# Altium schematic symbol library BEAGLEBONEBLK_C_Library.SchLib: 71 symbols
Pins are listed as number, name and electrical type; pins without a type are passive.

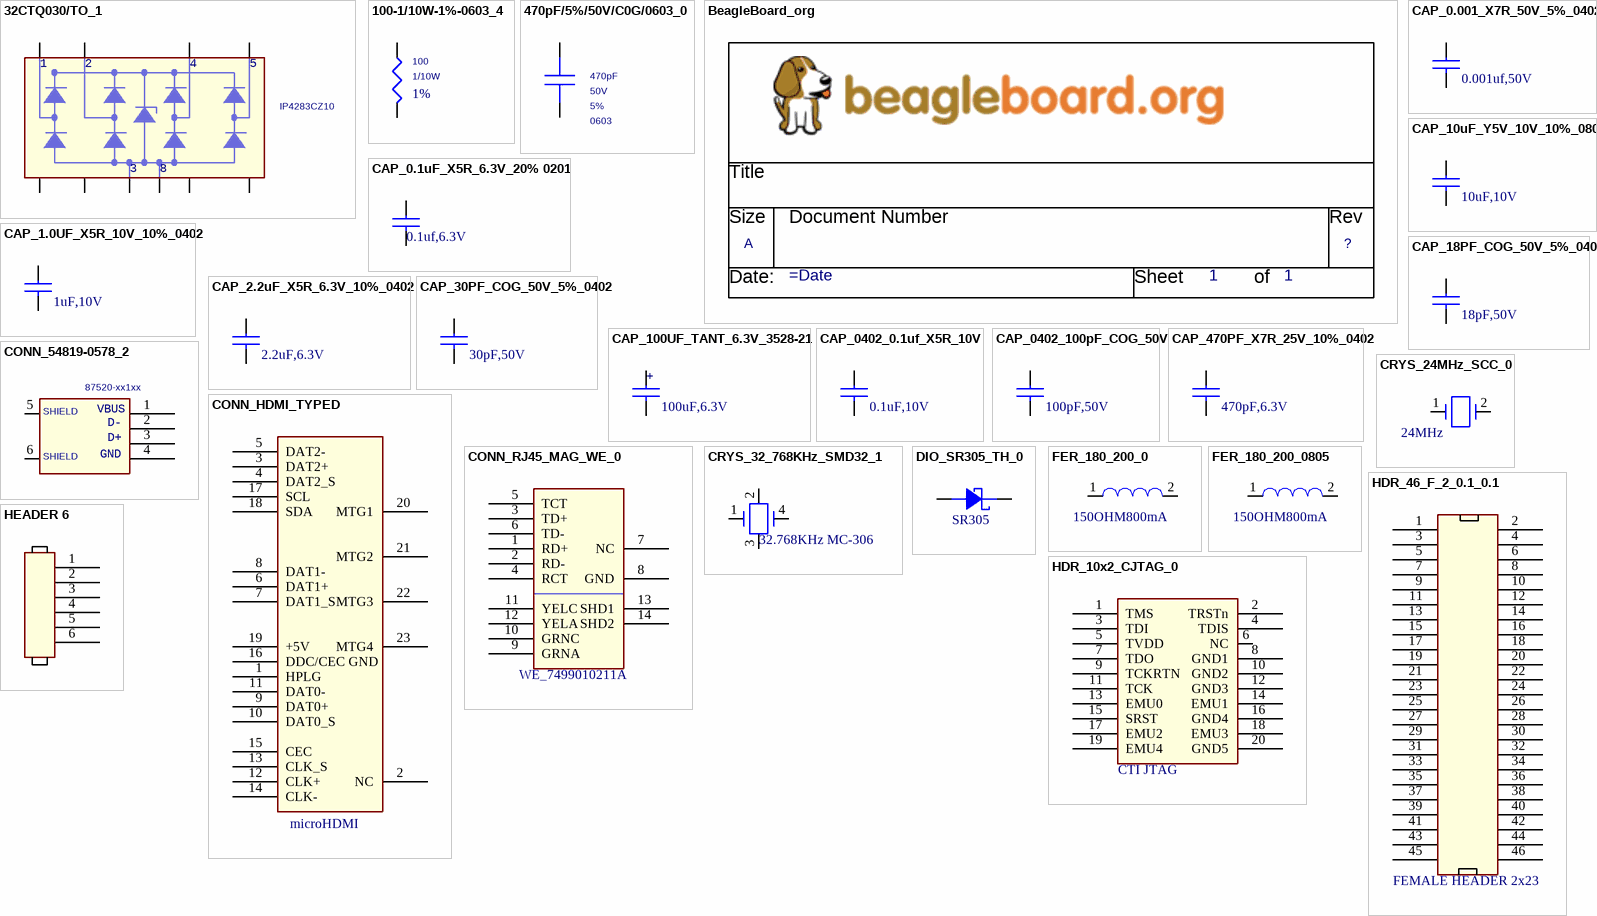
[diagram p0: symbols 32CTQ030/TO_1 to HEADER 6]

## 32CTQ030/TO_1
designator D?, comment IP4283CZ10
pins: 1, 2, 3, 4, 5, 6, 7, 8, 9, 10

## 100-1/10W-1%-0603_4
designator R?, comment 100  Tolerance: 1%  Wattage: 1/10W
PART#: Rohm MCR03EZPFX1000; PCB Footprint: 0603
footprint 0603
pins: 1, 2

## 470pF/5%/50V/C0G/0603_0
designator C?, comment 470pF  TOLERANCE: 5%  VOLTAGE: 50V  PCB Footprint: 0603
PART#: Murata GCM1885C1H471JA16D; DIELECTRIC: C0G; Ratings: AEC-Q200
footprint 0603
pins: 1, 2

## BeagleBoard_org
designator *  Page Count: 1  Page Size: A  (hidden comment: *)  (graphical)
Page Number: 1; RevCode: ?; Page Create Date: March  8, 1995; Page Modify Date: =Date
text: Title; Size; Document Number; Rev; Date:; Sheet; of

## CAP_0.001_X7R_50V_5%_0402
designator C?, comment 0.001uf,50V
Part Number: CAP_0.001uf_X7R_50V_0402; Desc: Capacitor 0.001uF 50V 5% 0402
footprint 402
pins: 1, 2

## CAP_0.1uF_X5R_6.3V_20% 0201
designator C?, comment 0.1uf,6.3V
Part Number: CAP_0.1uf_X7R_16V_10%_0402; Desc: Capacitor 0.01uF 16V 10% 0402
footprint 402
pins: 1, 2

## CAP_1.0UF_X5R_10V_10%_0402
designator C?, comment 1uF,10V
Part Number: CAP_1.0uF_X5R_10V_10%_0402; Desc: CAP, CER, X7R, 0402, 50V, 10%, 0.1uF
footprint 402
pins: 1, 2

## CAP_2.2uF_X5R_6.3V_10%_0402
designator C?, comment 2.2uF,6.3V
Part Number: CAP_2.2uF_X5R_6.3V_10%_0402; Desc: CAP, CER, X7R, 0402, 50V, 10%, 0.1uF
footprint 402
pins: 1, 2

## CAP_10uF_Y5V_10V_10%_0805
designator C?, comment 10uF,10V
Part Number: CAP_10uF_Y5V_10V_10%_0805; Desc: CAP CER 10UF 10V Y5V 0805
footprint r402-25rd
pins: 1, 2

## CAP_18PF_COG_50V_5%_0402
designator C?, comment 18pF,50V
Part Number: CAP_18PF_COG_50V_5%_0402; Desc: CAP, CER, X7R, 0402, 50V, 10%, 0.1uF
footprint 402
pins: 1, 2

## CAP_30PF_COG_50V_5%_0402
designator C?, comment 30pF,50V
Part Number: CAP_30PF_COG_50V_5%_0402; Desc: CAP, CER, X7R, 0402, 50V, 10%, 0.1uF
footprint 402
pins: 1, 2

## CAP_100UF_TANT_6.3V_3528-21
designator C?, comment 100uF,6.3V
Part Number: CAP_100uF_TANT_6.3V_3528-21; Desc: CAP CER 100UF 10V Y5V 0805
footprint r402-25rd
pins: 1, 2
text: +

## CAP_0402_0.1uf_X5R_10V
designator C?, comment 0.1uF,10V
Desc: CAP, CER, X7R, 0402, 10V, 10%, 0.1uF
footprint c402-25
pins: 1, 2

## CAP_0402_100pF_COG_50V
designator C?, comment 100pF,50V
Desc: CAP, CER, X7R, 0402, 10V, 10%, 0.1uF
footprint r402-25rd
pins: 1, 2

## CAP_470PF_X7R_25V_10%_0402
designator C?, comment 470pF,6.3V
Part Number: CAP_470PF_X7R_25V_10%_0402; Desc: Capacitor 470pF 25V 10% X7R
footprint 402
pins: 1, 2

## CONN_54819-0578_2
designator J?, comment 87520-xx1xx
TN: 224-0234-000; CLASS: IO
footprint MOL-54819-0578
pins: 1 P1, 2 P2, 3 P3, 4 P4, 5 SHELD1, 6 PAD4
text: VBUS; SHIELD; D-; D+; GND

## CONN_HDMI_TYPED
designator P?, comment microHDMI
footprint hdmi-smt-w-flange
pins: 1 HPLG, 2 NC, 3 DAT2+, 4 DAT2_S, 5 DAT2-, 6 DAT1+, 7 DAT1_S, 8 DAT1-, 9 DAT0+, 10 DAT0_S, 11 DAT0-, 12 CLK+, 13 CLK_S, 14 CLK-, 15 CEC, 16 DDC/CEC GND, 17 SCL, 18 SDA, 19 +5V, 20 MTG1 (power), 21 MTG2 (power), 22 MTG3 (power), 23 MTG4 (power)

## CONN_RJ45_MAG_WE_0
designator P?, comment WE_7499010211A
footprint RJ45-BEL_J1-SHLD
pins: 1 RD+, 2 RD-, 3 TD+, 4 RCT, 5 TCT, 6 TD-, 7 NC, 8 GND, 9 GRNA, 10 GRNC, 11 YELC, 12 YELA, 13 SHD1, 14 SHD2

## CRYS_24MHz_SCC_0
designator Y?, comment 24MHz
Crystal 24MHz; TIIntPartnumber: 1Y0033; MfrNum: SCC18B-24.000MHz TR; Mfr: Suntsu; PartName: Crystal24MHzSCC; PCB Footprint: SM_CRY_SCC18; Cost10K: 0.51; Cost100: 0.90; Vendor: Suntsu Inc
footprint SM_CRY_SCC18
pins: 1, 2

## CRYS_32_768KHz_SMD32_1
designator Y?, comment 32.768KHz MC-306
Crystal 32.768KHz; PartName: Crystal32.768KHzMC306; Mfr: Epson; MfrNum: MC-30632.7680k-A; TIIntPartnumber: 1Y0029; TN: tbd; Vendor: Digikey; Cost100: 0.41; Cost10K: 0.338; PCB Footprint: smd
footprint MC-306
pins: 1, 2, 3, 4

## DIO_SR305_TH_0
designator D?, comment SR305
Part Number: DIO_SR305_TH
pins: 1 CATHODE, 2 ANODE

## FER_180_200_0
designator FB?, comment 150OHM800mA
Ferrite Bead 150 Ohm 800mA; Part Number: FER_180_200_0805; TIIntPartnumber: 1L0010; MfrNum: LI0805H151R-10; Mfr: Steward; PCB Footprint: 805; Vendor: Digikey; PartName: FerriteBead150ohm800mA
footprint L0805
pins: 1, 2

## FER_180_200_0805
designator FB?, comment 150OHM800mA
Ferrite Bead 150 Ohm 800mA; Part Number: FER_180_200_0805; TIIntPartnumber: 1L0010; MfrNum: LI0805H151R-10; Mfr: Steward; PCB Footprint: 805; Vendor: Digikey; PartName: FerriteBead150ohm800mA
footprint sm-7351-ind-0805
pins: 1, 2

## HDR_10x2_CJTAG_0
designator J?, comment CTI JTAG
Dual Line Header 10x2pin Tin; PartName: HEADERCTIJTAG10x2Pin; Mfr: Samtec; MfrNum: FTR-110-03-G-D-06; TIIntPartnumber: 2H0039; Cost100: 1.20; Cost10K: 0.97; PCB Footprint: SMD10x2Pin0.050in; Vendor: Samtec
footprint header10x2
pins: 1 TMS, 2 TRSTn, 3 TDI, 4 TDIS, 5 TVDD, 6 NC, 7 TDO, 8 GND1 (power), 9 TCKRTN, 10 GND2 (power), 11 TCK, 12 GND3 (power), 13 EMU0, 14 EMU1, 15 SRST, 16 GND4 (power), 17 EMU2, 18 EMU3, 19 EMU4, 20 GND5 (power)

## HDR_46_F_2_0.1_0.1
designator P?, comment FEMALE HEADER 2x23
pins: 1, 2 26, 3 2, 4 27, 5 3, 6 28, 7 4, 8 29, 9 5, 10 30, 11 6, 12 31, 13 7, 14 32, 15 8, 16 33, 17 9, 18 34, 19 10, 20 35, 21 11, 22 36, 23 12, 24 37, 25 13, 26 38, 27 14, 28 39, 29 15, 30 40, 31 16, 32 41, 33 17, 34 42, 35 18, 36 43, 37 19, 38 44, 39 20, 40 45, 41 21, 42 46, 43 22, 44 47, 45 23, 46 48

## HEADER 6
designator J?
pins: 1, 2, 3, 4, 5, 6

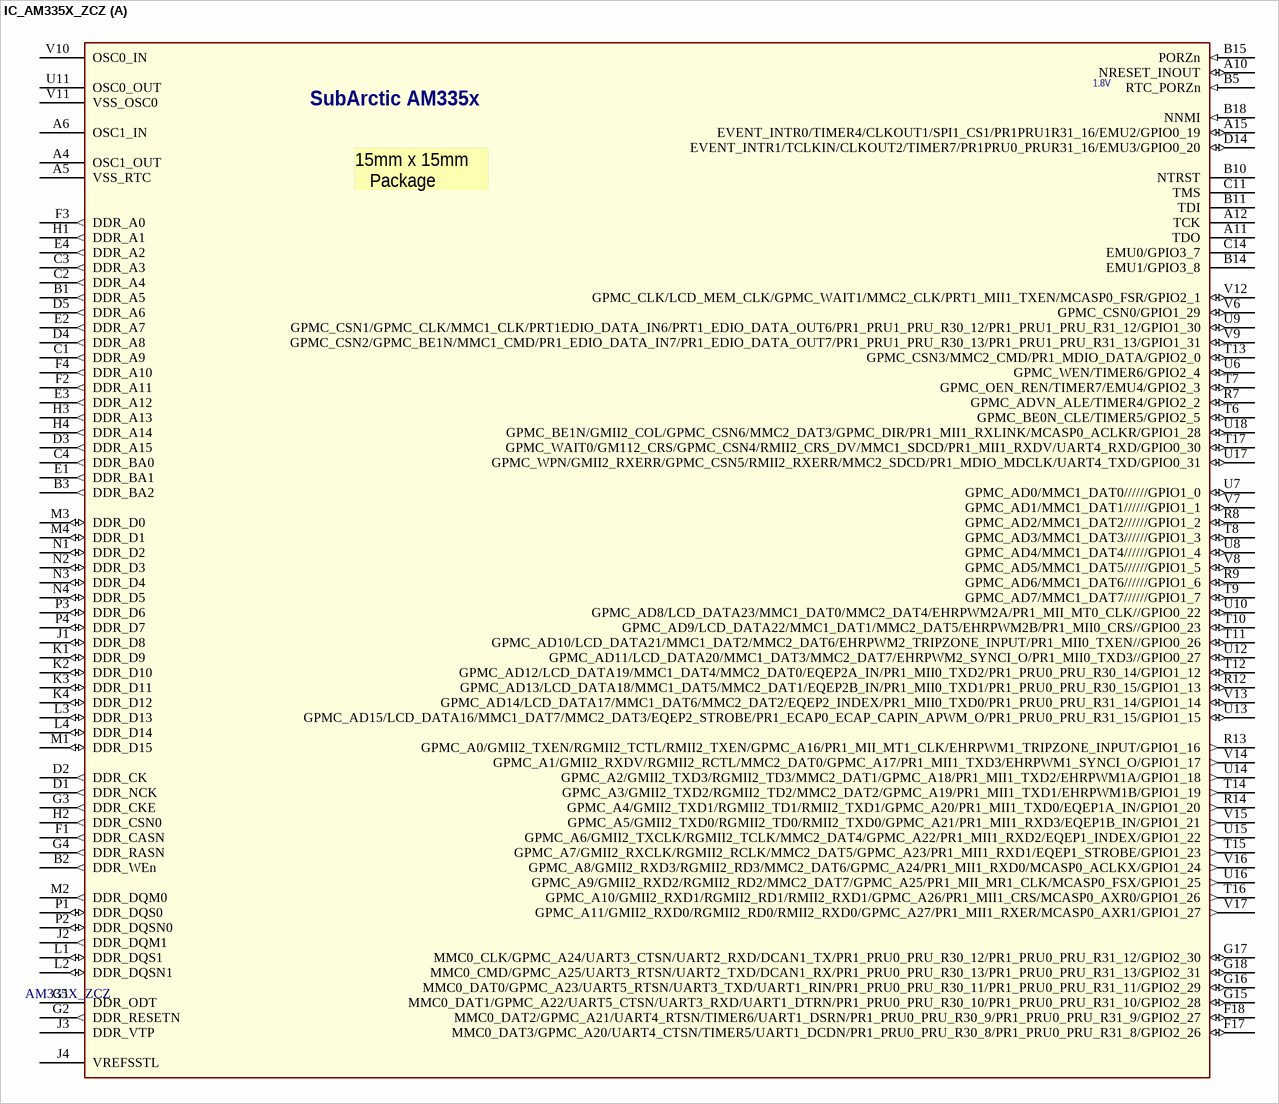
[diagram p1: symbol IC_AM335X_ZCZ]

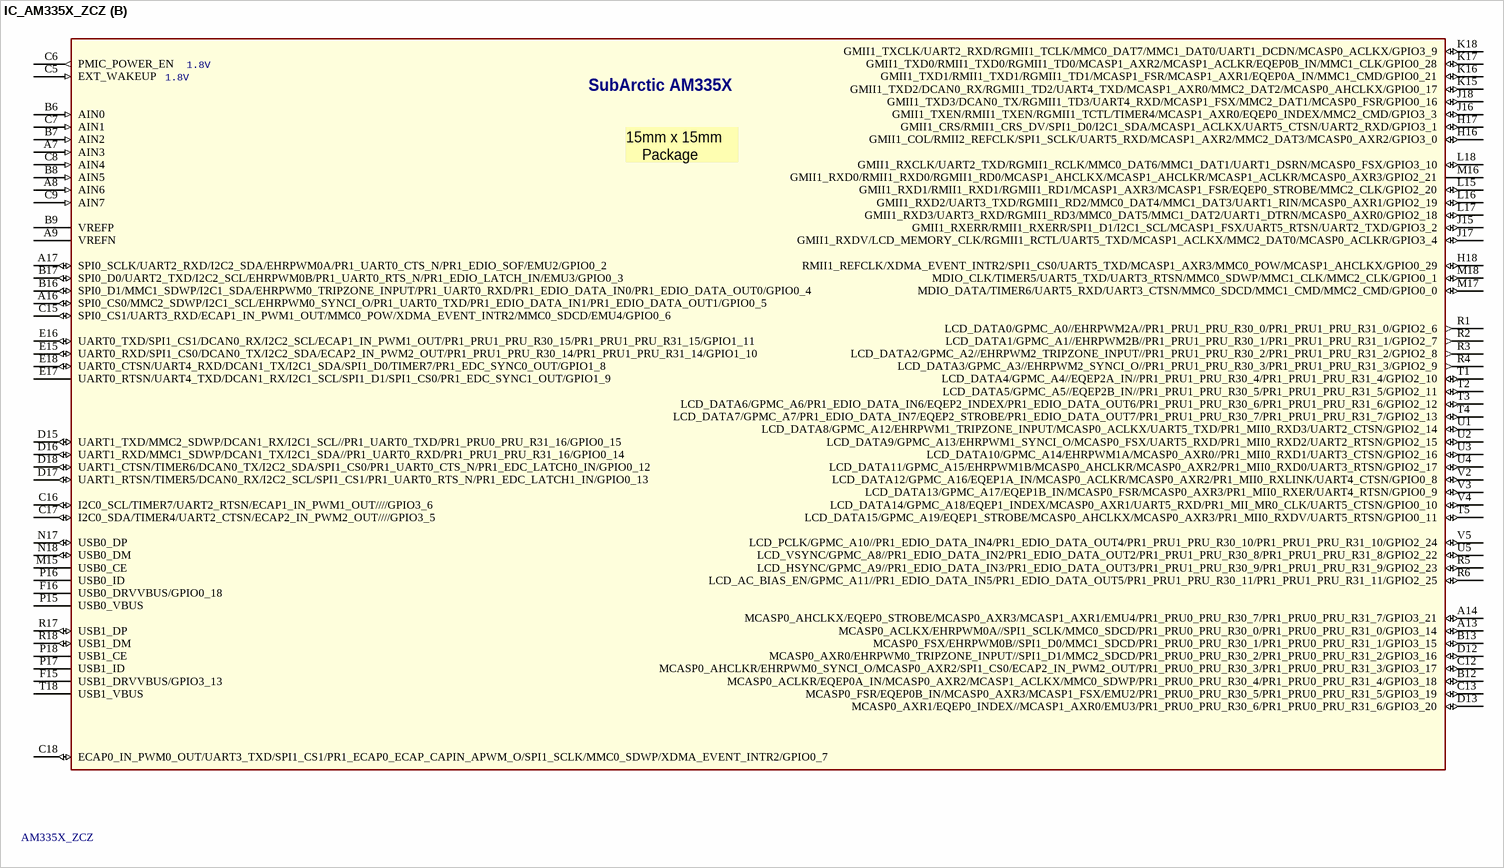
[diagram p2: symbol IC_AM335X_ZCZ]

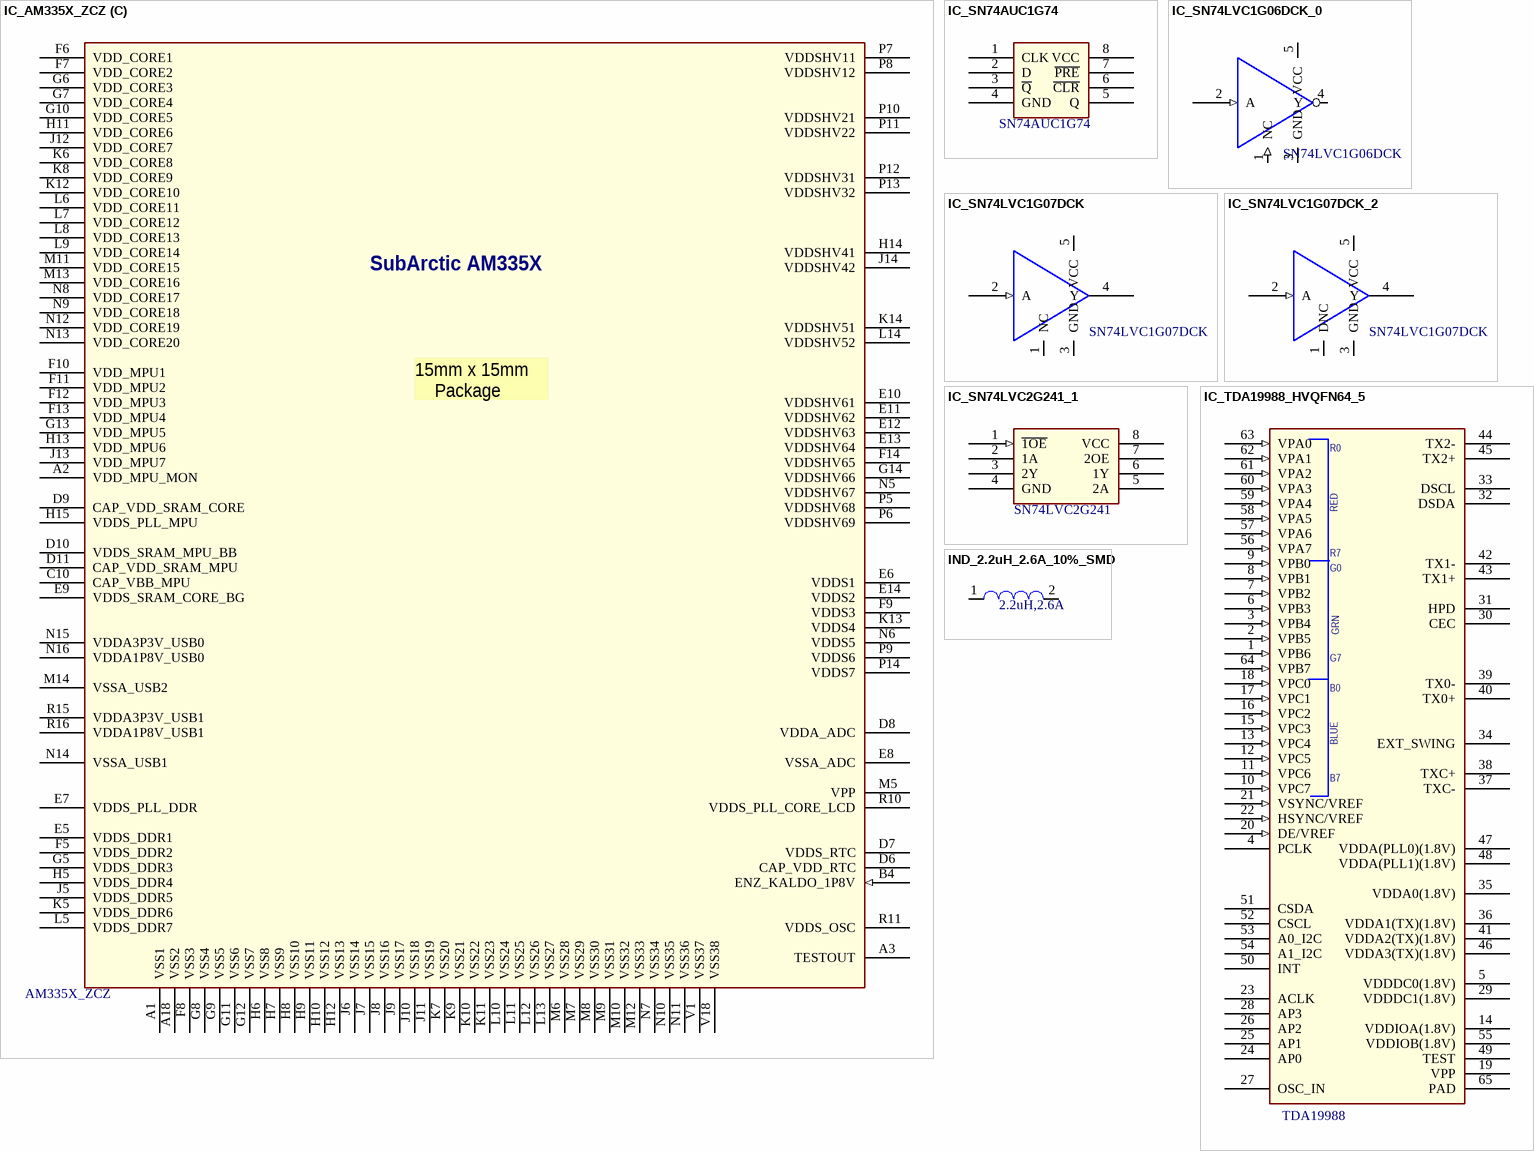
[diagram p3: symbols IC_AM335X_ZCZ to IND_2.2uH_2.6A_10%_SMD]

## IC_AM335X_ZCZ
designator U?, comment AM335X_ZCZ
SubArctic Cortex A8 Processor 15x15; Part Number: IC_AM335x_ZCE; TIIntPartnumber: 1A0242; MfrNum: AM335x 15x15 FBGA ZCE; Mfr: TI; PartName: AM335X_15x15; PCB Footprint: FBGAZCZ15x15_tbd; Vendor: Arrow; Cost10K: 10.00; Cost100: 10.00
footprint am33xx_15x15
part A pins: A4 OSC1_OUT, A5 VSS_RTC (power), A6 OSC1_IN, A10 NRESET_INOUT (io), A11 TDO, A12 TCK, A15 EVENT_INTR0/TIMER4/CLKOUT1/SPI1_CS1/PR1PRU1R31_16/EMU2/GPIO0_19 (io), B1 DDR_A5 (out), B2 DDR_WEn (out), B3 DDR_BA2 (out), B5 RTC_PORZn (in), B10 NTRST, B11 TDI, B14 EMU1/GPIO3_8, B15 PORZn (in), B18 NNMI (in), C1 DDR_A9 (out), C2 DDR_A4 (out), C3 DDR_A3 (out), C4 DDR_BA0 (out), C11 TMS, C14 EMU0/GPIO3_7, D1 DDR_NCK (out), D2 DDR_CK (out), D3 DDR_A15 (out), D4 DDR_A8 (out), D5 DDR_A6 (out), D14 EVENT_INTR1/TCLKIN/CLKOUT2/TIMER7/PR1PRU0_PRUR31_16/EMU3/GPIO0_20 (io), E1 DDR_BA1 (out), E2 DDR_A7 (out), E3 DDR_A12 (out), E4 DDR_A2 (out), F1 DDR_CASN (out), F2 DDR_A11 (out), F3 DDR_A0 (out), F4 DDR_A10 (out), F17 MMC0_DAT3/GPMC_A20/UART4_CTSN/TIMER5/UART1_DCDN/PR1_PRU0_PRU_R30_8/PR1_PRU0_PRU_R31_8/GPIO2_26 (io), F18 MMC0_DAT2/GPMC_A21/UART4_RTSN/TIMER6/UART1_DSRN/PR1_PRU0_PRU_R30_9/PR1_PRU0_PRU_R31_9/GPIO2_27 (io), G1 DDR_ODT, G2 DDR_RESETN (out), G3 DDR_CKE (out), G4 DDR_RASN (out), G15 MMC0_DAT1/GPMC_A22/UART5_CTSN/UART3_RXD/UART1_DTRN/PR1_PRU0_PRU_R30_10/PR1_PRU0_PRU_R31_10/GPIO2_28 (io), G16 MMC0_DAT0/GPMC_A23/UART5_RTSN/UART3_TXD/UART1_RIN/PR1_PRU0_PRU_R30_11/PR1_PRU0_PRU_R31_11/GPIO2_29 (io), G17 MMC0_CLK/GPMC_A24/UART3_CTSN/UART2_RXD/DCAN1_TX/PR1_PRU0_PRU_R30_12/PR1_PRU0_PRU_R31_12/GPIO2_30 (io), G18 MMC0_CMD/GPMC_A25/UART3_RTSN/UART2_TXD/DCAN1_RX/PR1_PRU0_PRU_R30_13/PR1_PRU0_PRU_R31_13/GPIO2_31 (io), H1 DDR_A1 (out), H2 DDR_CSN0 (out), H3 DDR_A13 (out), H4 DDR_A14 (out), J1 DDR_D8 (io), J2 DDR_DQM1 (out), J3 DDR_VTP, J4 VREFSSTL, K1 DDR_D9 (io), K2 DDR_D10 (io), K3 DDR_D11 (io), K4 DDR_D12 (io), L1 DDR_DQS1 (io), L2 DDR_DQSN1 (io), L3 DDR_D13 (io), L4 DDR_D14 (io), M1 DDR_D15 (io), M2 DDR_DQM0 (out), M3 DDR_D0 (io), M4 DDR_D1 (io), N1 DDR_D2 (io), N2 DDR_D3 (io), N3 DDR_D4 (io), N4 DDR_D5 (io), P1 DDR_DQS0 (io), P2 DDR_DQSN0 (io), P3 DDR_D6 (io), P4 DDR_D7 (io), R7 GPMC_ADVN_ALE/TIMER4/GPIO2_2 (io), R8 GPMC_AD2/MMC1_DAT2//////GPIO1_2 (io), R9 GPMC_AD6/MMC1_DAT6//////GPIO1_6 (io), R12 GPMC_AD13/LCD_DATA18/MMC1_DAT5/MMC2_DAT1/EQEP2B_IN/PR1_MII0_TXD1/PR1_PRU0_PRU_R30_15/GPIO1_13 (io), R13 GPMC_A0/GMII2_TXEN/RGMII2_TCTL/RMII2_TXEN/GPMC_A16/PR1_MII_MT1_CLK/EHRPWM1_TRIPZONE_INPUT/GPIO1_16 (out), R14 GPMC_A4/GMII2_TXD1/RGMII2_TD1/RMII2_TXD1/GPMC_A20/PR1_MII1_TXD0/EQEP1A_IN/GPIO1_20 (out), T6 GPMC_BE0N_CLE/TIMER5/GPIO2_5 (io), T7 GPMC_OEN_REN/TIMER7/EMU4/GPIO2_3 (io), T8 GPMC_AD3/MMC1_DAT3//////GPIO1_3 (io), T9 GPMC_AD7/MMC1_DAT7//////GPIO1_7 (io), T10 GPMC_AD9/LCD_DATA22/MMC1_DAT1/MMC2_DAT5/EHRPWM2B/PR1_MII0_CRS//GPIO0_23 (io), T11 GPMC_AD10/LCD_DATA21/MMC1_DAT2/MMC2_DAT6/EHRPWM2_TRIPZONE_INPUT/PR1_MII0_TXEN//GPIO0_26 (io), T12 GPMC_AD12/LCD_DATA19/MMC1_DAT4/MMC2_DAT0/EQEP2A_IN/PR1_MII0_TXD2/PR1_PRU0_PRU_R30_14/GPIO1_12 (io), T13 GPMC_CSN3/MMC2_CMD/PR1_MDIO_DATA/GPIO2_0 (io), T14 GPMC_A3/GMII2_TXD2/RGMII2_TD2/MMC2_DAT2/GPMC_A19/PR1_MII1_TXD1/EHRPWM1B/GPIO1_19 (out), T15 GPMC_A7/GMII2_RXCLK/RGMII2_RCLK/MMC2_DAT5/GPMC_A23/PR1_MII1_RXD1/EQEP1_STROBE/GPIO1_23 (out), T16 GPMC_A10/GMII2_RXD1/RGMII2_RD1/RMII2_RXD1/GPMC_A26/PR1_MII1_CRS/MCASP0_AXR0/GPIO1_26 (out), T17 GPMC_WAIT0/GM112_CRS/GPMC_CSN4/RMII2_CRS_DV/MMC1_SDCD/PR1_MII1_RXDV/UART4_RXD/GPIO0_30 (io), U6 GPMC_WEN/TIMER6/GPIO2_4 (io), U7 GPMC_AD0/MMC1_DAT0//////GPIO1_0 (io), U8 GPMC_AD4/MMC1_DAT4//////GPIO1_4 (io), U9 GPMC_CSN1/GPMC_CLK/MMC1_CLK/PRT1EDIO_DATA_IN6/PRT1_EDIO_DATA_OUT6/PR1_PRU1_PRU_R30_12/PR1_PRU1_PRU_R31_12/GPIO1_30 (io), U10 GPMC_AD8/LCD_DATA23/MMC1_DAT0/MMC2_DAT4/EHRPWM2A/PR1_MII_MT0_CLK//GPIO0_22 (io), U11 OSC0_OUT, U12 GPMC_AD11/LCD_DATA20/MMC1_DAT3/MMC2_DAT7/EHRPWM2_SYNCI_O/PR1_MII0_TXD3//GPIO0_27 (io), U13 GPMC_AD15/LCD_DATA16/MMC1_DAT7/MMC2_DAT3/EQEP2_STROBE/PR1_ECAP0_ECAP_CAPIN_APWM_O/PR1_PRU0_PRU_R31_15/GPIO1_15 (io), U14 GPMC_A2/GMII2_TXD3/RGMII2_TD3/MMC2_DAT1/GPMC_A18/PR1_MII1_TXD2/EHRPWM1A/GPIO1_18 (out), U15 GPMC_A6/GMII2_TXCLK/RGMII2_TCLK/MMC2_DAT4/GPMC_A22/PR1_MII1_RXD2/EQEP1_INDEX/GPIO1_22 (out), U16 GPMC_A9/GMII2_RXD2/RGMII2_RD2/MMC2_DAT7/GPMC_A25/PR1_MII_MR1_CLK/MCASP0_FSX/GPIO1_25 (out), U17 GPMC_WPN/GMII2_RXERR/GPMC_CSN5/RMII2_RXERR/MMC2_SDCD/PR1_MDIO_MDCLK/UART4_TXD/GPIO0_31 (io), U18 GPMC_BE1N/GMII2_COL/GPMC_CSN6/MMC2_DAT3/GPMC_DIR/PR1_MII1_RXLINK/MCASP0_ACLKR/GPIO1_28 (io), V6 GPMC_CSN0/GPIO1_29 (io), V7 GPMC_AD1/MMC1_DAT1//////GPIO1_1 (io), V8 GPMC_AD5/MMC1_DAT5//////GPIO1_5 (io), V9 GPMC_CSN2/GPMC_BE1N/MMC1_CMD/PR1_EDIO_DATA_IN7/PR1_EDIO_DATA_OUT7/PR1_PRU1_PRU_R30_13/PR1_PRU1_PRU_R31_13/GPIO1_31 (io), V10 OSC0_IN, V11 VSS_OSC0 (power), V12 GPMC_CLK/LCD_MEM_CLK/GPMC_WAIT1/MMC2_CLK/PRT1_MII1_TXEN/MCASP0_FSR/GPIO2_1 (io), V13 GPMC_AD14/LCD_DATA17/MMC1_DAT6/MMC2_DAT2/EQEP2_INDEX/PR1_MII0_TXD0/PR1_PRU0_PRU_R31_14/GPIO1_14 (io), V14 GPMC_A1/GMII2_RXDV/RGMII2_RCTL/MMC2_DAT0/GPMC_A17/PR1_MII1_TXD3/EHRPWM1_SYNCI_O/GPIO1_17 (out), V15 GPMC_A5/GMII2_TXD0/RGMII2_TD0/RMII2_TXD0/GPMC_A21/PR1_MII1_RXD3/EQEP1B_IN/GPIO1_21 (out), V16 GPMC_A8/GMII2_RXD3/RGMII2_RD3/MMC2_DAT6/GPMC_A24/PR1_MII1_RXD0/MCASP0_ACLKX/GPIO1_24 (out), V17 GPMC_A11/GMII2_RXD0/RGMII2_RD0/RMII2_RXD0/GPMC_A27/PR1_MII1_RXER/MCASP0_AXR1/GPIO1_27 (out)
part B pins: A7 AIN3 (in), A8 AIN6 (in), A9 VREFN, A13 MCASP0_ACLKX/EHRPWM0A//SPI1_SCLK/MMC0_SDCD/PR1_PRU0_PRU_R30_0/PR1_PRU0_PRU_R31_0/GPIO3_14 (io), A14 MCASP0_AHCLKX/EQEP0_STROBE/MCASP0_AXR3/MCASP1_AXR1/EMU4/PR1_PRU0_PRU_R30_7/PR1_PRU0_PRU_R31_7/GPIO3_21 (io), A16 SPI0_CS0/MMC2_SDWP/I2C1_SCL/EHRPWM0_SYNCI_O/PR1_UART0_TXD/PR1_EDIO_DATA_IN1/PR1_EDIO_DATA_OUT1/GPIO0_5 (io), A17 SPI0_SCLK/UART2_RXD/I2C2_SDA/EHRPWM0A/PR1_UART0_CTS_N/PR1_EDIO_SOF/EMU2/GPIO0_2 (io), B6 AIN0 (in), B7 AIN2 (in), B8 AIN5 (in), B9 VREFP, B12 MCASP0_ACLKR/EQEP0A_IN/MCASP0_AXR2/MCASP1_ACLKX/MMC0_SDWP/PR1_PRU0_PRU_R30_4/PR1_PRU0_PRU_R31_4/GPIO3_18 (io), B13 MCASP0_FSX/EHRPWM0B//SPI1_D0/MMC1_SDCD/PR1_PRU0_PRU_R30_1/PR1_PRU0_PRU_R31_1/GPIO3_15 (io), B16 SPI0_D1/MMC1_SDWP/I2C1_SDA/EHRPWM0_TRIPZONE_INPUT/PR1_UART0_RXD/PR1_EDIO_DATA_IN0/PR1_EDIO_DATA_OUT0/GPIO0_4 (io), B17 SPI0_D0/UART2_TXD/I2C2_SCL/EHRPWM0B/PR1_UART0_RTS_N/PR1_EDIO_LATCH_IN/EMU3/GPIO0_3 (io), C5 EXT_WAKEUP (in), C6 PMIC_POWER_EN (out), C7 AIN1 (in), C8 AIN4 (in), C9 AIN7 (in), C12 MCASP0_AHCLKR/EHRPWM0_SYNCI_O/MCASP0_AXR2/SPI1_CS0/ECAP2_IN_PWM2_OUT/PR1_PRU0_PRU_R30_3/PR1_PRU0_PRU_R31_3/GPIO3_17 (io), C13 MCASP0_FSR/EQEP0B_IN/MCASP0_AXR3/MCASP1_FSX/EMU2/PR1_PRU0_PRU_R30_5/PR1_PRU0_PRU_R31_5/GPIO3_19 (io), C15 SPI0_CS1/UART3_RXD/ECAP1_IN_PWM1_OUT/MMC0_POW/XDMA_EVENT_INTR2/MMC0_SDCD/EMU4/GPIO0_6 (io), C16 I2C0_SCL/TIMER7/UART2_RTSN/ECAP1_IN_PWM1_OUT////GPIO3_6 (io), C17 I2C0_SDA/TIMER4/UART2_CTSN/ECAP2_IN_PWM2_OUT////GPIO3_5 (io), C18 ECAP0_IN_PWM0_OUT/UART3_TXD/SPI1_CS1/PR1_ECAP0_ECAP_CAPIN_APWM_O/SPI1_SCLK/MMC0_SDWP/XDMA_EVENT_INTR2/GPIO0_7 (io), D12 MCASP0_AXR0/EHRPWM0_TRIPZONE_INPUT//SPI1_D1/MMC2_SDCD/PR1_PRU0_PRU_R30_2/PR1_PRU0_PRU_R31_2/GPIO3_16 (io), D13 MCASP0_AXR1/EQEP0_INDEX//MCASP1_AXR0/EMU3/PR1_PRU0_PRU_R30_6/PR1_PRU0_PRU_R31_6/GPIO3_20 (io), D15 UART1_TXD/MMC2_SDWP/DCAN1_RX/I2C1_SCL//PR1_UART0_TXD/PR1_PRU0_PRU_R31_16/GPIO0_15 (io), D16 UART1_RXD/MMC1_SDWP/DCAN1_TX/I2C1_SDA//PR1_UART0_RXD/PR1_PRU1_PRU_R31_16/GPIO0_14 (io), D17 UART1_RTSN/TIMER5/DCAN0_RX/I2C2_SCL/SPI1_CS1/PR1_UART0_RTS_N/PR1_EDC_LATCH1_IN/GPIO0_13 (io), D18 UART1_CTSN/TIMER6/DCAN0_TX/I2C2_SDA/SPI1_CS0/PR1_UART0_CTS_N/PR1_EDC_LATCH0_IN/GPIO0_12 (io), E15 UART0_RXD/SPI1_CS0/DCAN0_TX/I2C2_SDA/ECAP2_IN_PWM2_OUT/PR1_PRU1_PRU_R30_14/PR1_PRU1_PRU_R31_14/GPIO1_10 (io), E16 UART0_TXD/SPI1_CS1/DCAN0_RX/I2C2_SCL/ECAP1_IN_PWM1_OUT/PR1_PRU1_PRU_R30_15/PR1_PRU1_PRU_R31_15/GPIO1_11 (io), E17 UART0_RTSN/UART4_TXD/DCAN1_RX/I2C1_SCL/SPI1_D1/SPI1_CS0/PR1_EDC_SYNC1_OUT/GPIO1_9, E18 UART0_CTSN/UART4_RXD/DCAN1_TX/I2C1_SDA/SPI1_D0/TIMER7/PR1_EDC_SYNC0_OUT/GPIO1_8 (io), F15 USB1_DRVVBUS/GPIO3_13, F16 USB0_DRVVBUS/GPIO0_18, H16 GMII1_COL/RMII2_REFCLK/SPI1_SCLK/UART5_RXD/MCASP1_AXR2/MMC2_DAT3/MCASP0_AXR2/GPIO3_0 (io), H17 GMII1_CRS/RMII1_CRS_DV/SPI1_D0/I2C1_SDA/MCASP1_ACLKX/UART5_CTSN/UART2_RXD/GPIO3_1 (io), H18 RMII1_REFCLK/XDMA_EVENT_INTR2/SPI1_CS0/UART5_TXD/MCASP1_AXR3/MMC0_POW/MCASP1_AHCLKX/GPIO0_29 (io), J15 GMII1_RXERR/RMII1_RXERR/SPI1_D1/I2C1_SCL/MCASP1_FSX/UART5_RTSN/UART2_TXD/GPIO3_2 (io), J16 GMII1_TXEN/RMII1_TXEN/RGMII1_TCTL/TIMER4/MCASP1_AXR0/EQEP0_INDEX/MMC2_CMD/GPIO3_3 (io), J17 GMII1_RXDV/LCD_MEMORY_CLK/RGMII1_RCTL/UART5_TXD/MCASP1_ACLKX/MMC2_DAT0/MCASP0_ACLKR/GPIO3_4 (io), J18 GMII1_TXD3/DCAN0_TX/RGMII1_TD3/UART4_RXD/MCASP1_FSX/MMC2_DAT1/MCASP0_FSR/GPIO0_16 (io), K15 GMII1_TXD2/DCAN0_RX/RGMII1_TD2/UART4_TXD/MCASP1_AXR0/MMC2_DAT2/MCASP0_AHCLKX/GPIO0_17 (io), K16 GMII1_TXD1/RMII1_TXD1/RGMII1_TD1/MCASP1_FSR/MCASP1_AXR1/EQEP0A_IN/MMC1_CMD/GPIO0_21 (io), K17 GMII1_TXD0/RMII1_TXD0/RGMII1_TD0/MCASP1_AXR2/MCASP1_ACLKR/EQEP0B_IN/MMC1_CLK/GPIO0_28 (io), K18 GMII1_TXCLK/UART2_RXD/RGMII1_TCLK/MMC0_DAT7/MMC1_DAT0/UART1_DCDN/MCASP0_ACLKX/GPIO3_9 (io), L15 GMII1_RXD1/RMII1_RXD1/RGMII1_RD1/MCASP1_AXR3/MCASP1_FSR/EQEP0_STROBE/MMC2_CLK/GPIO2_20 (io), L16 GMII1_RXD2/UART3_TXD/RGMII1_RD2/MMC0_DAT4/MMC1_DAT3/UART1_RIN/MCASP0_AXR1/GPIO2_19 (io), L17 GMII1_RXD3/UART3_RXD/RGMII1_RD3/MMC0_DAT5/MMC1_DAT2/UART1_DTRN/MCASP0_AXR0/GPIO2_18 (io), L18 GMII1_RXCLK/UART2_TXD/RGMII1_RCLK/MMC0_DAT6/MMC1_DAT1/UART1_DSRN/MCASP0_FSX/GPIO3_10 (io), M15 USB0_CE, M16 GMII1_RXD0/RMII1_RXD0/RGMII1_RD0/MCASP1_AHCLKX/MCASP1_AHCLKR/MCASP1_ACLKR/MCASP0_AXR3/GPIO2_21, M17 MDIO_DATA/TIMER6/UART5_RXD/UART3_CTSN/MMC0_SDCD/MMC1_CMD/MMC2_CMD/GPIO0_0 (io), M18 MDIO_CLK/TIMER5/UART5_TXD/UART3_RTSN/MMC0_SDWP/MMC1_CLK/MMC2_CLK/GPIO0_1 (io), N17 USB0_DP (io), N18 USB0_DM (io), P15 USB0_VBUS, P16 USB0_ID, P17 USB1_ID, P18 USB1_CE, R1 LCD_DATA0/GPMC_A0//EHRPWM2A//PR1_PRU1_PRU_R30_0/PR1_PRU1_PRU_R31_0/GPIO2_6 (out), R2 LCD_DATA1/GPMC_A1//EHRPWM2B//PR1_PRU1_PRU_R30_1/PR1_PRU1_PRU_R31_1/GPIO2_7 (out), R3 LCD_DATA2/GPMC_A2//EHRPWM2_TRIPZONE_INPUT//PR1_PRU1_PRU_R30_2/PR1_PRU1_PRU_R31_2/GPIO2_8 (out), R4 LCD_DATA3/GPMC_A3//EHRPWM2_SYNCI_O//PR1_PRU1_PRU_R30_3/PR1_PRU1_PRU_R31_3/GPIO2_9 (out), R5 LCD_HSYNC/GPMC_A9//PR1_EDIO_DATA_IN3/PR1_EDIO_DATA_OUT3/PR1_PRU1_PRU_R30_9/PR1_PRU1_PRU_R31_9/GPIO2_23 (io), R6 LCD_AC_BIAS_EN/GPMC_A11//PR1_EDIO_DATA_IN5/PR1_EDIO_DATA_OUT5/PR1_PRU1_PRU_R30_11/PR1_PRU1_PRU_R31_11/GPIO2_25 (io), R17 USB1_DP (io), R18 USB1_DM (io), T1 LCD_DATA4/GPMC_A4//EQEP2A_IN//PR1_PRU1_PRU_R30_4/PR1_PRU1_PRU_R31_4/GPIO2_10 (io), T2 LCD_DATA5/GPMC_A5//EQEP2B_IN//PR1_PRU1_PRU_R30_5/PR1_PRU1_PRU_R31_5/GPIO2_11 (io), T3 LCD_DATA6/GPMC_A6/PR1_EDIO_DATA_IN6/EQEP2_INDEX/PR1_EDIO_DATA_OUT6/PR1_PRU1_PRU_R30_6/PR1_PRU1_PRU_R31_6/GPIO2_12 (io), T4 LCD_DATA7/GPMC_A7/PR1_EDIO_DATA_IN7/EQEP2_STROBE/PR1_EDIO_DATA_OUT7/PR1_PRU1_PRU_R30_7/PR1_PRU1_PRU_R31_7/GPIO2_13 (io), T5 LCD_DATA15/GPMC_A19/EQEP1_STROBE/MCASP0_AHCLKX/MCASP0_AXR3/PR1_MII0_RXDV/UART5_RTSN/GPIO0_11 (io), T18 USB1_VBUS, U1 LCD_DATA8/GPMC_A12/EHRPWM1_TRIPZONE_INPUT/MCASP0_ACLKX/UART5_TXD/PR1_MII0_RXD3/UART2_CTSN/GPIO2_14 (io), U2 LCD_DATA9/GPMC_A13/EHRPWM1_SYNCI_O/MCASP0_FSX/UART5_RXD/PR1_MII0_RXD2/UART2_RTSN/GPIO2_15 (io), U3 LCD_DATA10/GPMC_A14/EHRPWM1A/MCASP0_AXR0//PR1_MII0_RXD1/UART3_CTSN/GPIO2_16 (io), U4 LCD_DATA11/GPMC_A15/EHRPWM1B/MCASP0_AHCLKR/MCASP0_AXR2/PR1_MII0_RXD0/UART3_RTSN/GPIO2_17 (io), U5 LCD_VSYNC/GPMC_A8//PR1_EDIO_DATA_IN2/PR1_EDIO_DATA_OUT2/PR1_PRU1_PRU_R30_8/PR1_PRU1_PRU_R31_8/GPIO2_22 (io), V2 LCD_DATA12/GPMC_A16/EQEP1A_IN/MCASP0_ACLKR/MCASP0_AXR2/PR1_MII0_RXLINK/UART4_CTSN/GPIO0_8 (io), V3 LCD_DATA13/GPMC_A17/EQEP1B_IN/MCASP0_FSR/MCASP0_AXR3/PR1_MII0_RXER/UART4_RTSN/GPIO0_9 (io), V4 LCD_DATA14/GPMC_A18/EQEP1_INDEX/MCASP0_AXR1/UART5_RXD/PR1_MII_MR0_CLK/UART5_CTSN/GPIO0_10 (io), V5 LCD_PCLK/GPMC_A10//PR1_EDIO_DATA_IN4/PR1_EDIO_DATA_OUT4/PR1_PRU1_PRU_R30_10/PR1_PRU1_PRU_R31_10/GPIO2_24 (io)
part C pins: A1 VSS1 (power), A2 VDD_MPU_MON, A3 TESTOUT, A18 VSS2 (power), B4 ENZ_KALDO_1P8V (in), C10 CAP_VBB_MPU, D6 CAP_VDD_RTC (power), D7 VDDS_RTC (power), D8 VDDA_ADC (power), D9 CAP_VDD_SRAM_CORE (power), D10 VDDS_SRAM_MPU_BB (power), D11 CAP_VDD_SRAM_MPU (power), E5 VDDS_DDR1 (power), E6 VDDS1 (power), E7 VDDS_PLL_DDR (power), E8 VSSA_ADC (power), E9 VDDS_SRAM_CORE_BG (power), E10 VDDSHV61 (power), E11 VDDSHV62 (power), E12 VDDSHV63 (power), E13 VDDSHV64 (power), E14 VDDS2 (power), F5 VDDS_DDR2 (power), F6 VDD_CORE1 (power), F7 VDD_CORE2 (power), F8 VSS3 (power), F9 VDDS3 (power), F10 VDD_MPU1 (power), F11 VDD_MPU2 (power), F12 VDD_MPU3 (power), F13 VDD_MPU4 (power), F14 VDDSHV65 (power), G5 VDDS_DDR3 (power), G6 VDD_CORE3 (power), G7 VDD_CORE4 (power), G8 VSS4 (power), G9 VSS5 (power), G10 VDD_CORE5 (power), G11 VSS6 (power), G12 VSS7 (power), G13 VDD_MPU5 (power), G14 VDDSHV66 (power), H5 VDDS_DDR4 (power), H6 VSS8 (power), H7 VSS9 (power), H8 VSS10 (power), H9 VSS11 (power), H10 VSS12 (power), H11 VDD_CORE6 (power), H12 VSS13 (power), H13 VDD_MPU6 (power), H14 VDDSHV41 (power), H15 VDDS_PLL_MPU (power), J5 VDDS_DDR5 (power), J6 VSS14 (power), J7 VSS15 (power), J8 VSS16 (power), J9 VSS17 (power), J10 VSS18 (power), J11 VSS19 (power), J12 VDD_CORE7 (power), J13 VDD_MPU7 (power), J14 VDDSHV42 (power), K5 VDDS_DDR6 (power), K6 VDD_CORE8 (power), K7 VSS20 (power), K8 VDD_CORE9 (power), K9 VSS21 (power), K10 VSS22 (power), K11 VSS23 (power), K12 VDD_CORE10 (power), K13 VDDS4 (power), K14 VDDSHV51 (power), L5 VDDS_DDR7 (power), L6 VDD_CORE11 (power), L7 VDD_CORE12 (power), L8 VDD_CORE13 (power), L9 VDD_CORE14 (power), L10 VSS24 (power), L11 VSS25 (power), L12 VSS26 (power), L13 VSS27 (power), L14 VDDSHV52 (power), M5 VPP, M6 VSS28 (power), M7 VSS29 (power), M8 VSS30 (power), M9 VSS31 (power), M10 VSS32 (power), M11 VDD_CORE15 (power), M12 VSS33 (power), M13 VDD_CORE16 (power), M14 VSSA_USB2 (power), N5 VDDSHV67 (power), N6 VDDS5 (power), N7 VSS34 (power), N8 VDD_CORE17 (power), N9 VDD_CORE18 (power), N10 VSS35 (power), N11 VSS36 (power), N12 VDD_CORE19 (power), N13 VDD_CORE20 (power), N14 VSSA_USB1 (power), N15 VDDA3P3V_USB0 (power), N16 VDDA1P8V_USB0 (power), P5 VDDSHV68 (power), P6 VDDSHV69 (power), P7 VDDSHV11 (power), P8 VDDSHV12 (power), P9 VDDS6 (power), P10 VDDSHV21 (power), P11 VDDSHV22 (power), P12 VDDSHV31 (power), P13 VDDSHV32 (power), P14 VDDS7 (power), R10 VDDS_PLL_CORE_LCD (power), R11 VDDS_OSC (power), R15 VDDA3P3V_USB1 (power), R16 VDDA1P8V_USB1 (power), V1 VSS37 (power), V18 VSS38 (power)
part A text: 1.8V; SubArctic AM335x; 15mm x 15mm / Package
part B text: 1.8V; SubArctic AM335X; 15mm x 15mm / Package
part C text: SubArctic AM335X; 15mm x 15mm / Package

## IC_SN74AUC1G74
designator U?, comment SN74AUC1G74
pins: 1 CLK, 2 D, 3 ~{Q}, 4 GND (power), 5 Q, 6 ~{CLR}, 7 ~{PRE}, 8 VCC (power)

## IC_SN74LVC1G06DCK_0
designator U?, comment SN74LVC1G06DCK
pins: 1 NC (in), 2 A (in), 3 GND (power), 4 Y, 5 VCC (power)

## IC_SN74LVC1G07DCK
designator U?, comment SN74LVC1G07DCK
Part Number: IC_SN74LVC1G07DCK
pins: 1 NC, 2 A (in), 3 GND (power), 4 Y, 5 VCC (power)

## IC_SN74LVC1G07DCK_2
designator U?, comment SN74LVC1G07DCK
Part Number: IC_SN74LVC1G07DCK
pins: 1 DNC, 2 A (in), 3 GND (power), 4 Y, 5 VCC (power)

## IC_SN74LVC2G241_1
designator U?, comment SN74LVC2G241
pins: 1 ~{1OE} (in), 2 1A, 3 2Y, 4 GND (power), 5 2A, 6 1Y, 7 2OE, 8 VCC (power)

## IC_TDA19988_HVQFN64_5
designator U?, comment TDA19988
pins: 1 VPB6 (in), 2 VPB5 (in), 3 VPB4 (in), 4 PCLK, 5 VDDDC0(1.8V) (power), 6 VPB3 (in), 7 VPB2 (in), 8 VPB1 (in), 9 VPB0 (in), 10 VPC7 (in), 11 VPC6 (in), 12 VPC5 (in), 13 VPC4 (in), 14 VDDIOA(1.8V) (power), 15 VPC3 (in), 16 VPC2 (in), 17 VPC1 (in), 18 VPC0 (in), 19 VPP (power), 20 DE/VREF (in), 21 VSYNC/VREF (in), 22 HSYNC/VREF (in), 23 ACLK, 24 AP0, 25 AP1, 26 AP2, 27 OSC_IN, 28 AP3, 29 VDDDC1(1.8V) (power), 30 CEC, 31 HPD, 32 DSDA, 33 DSCL, 34 EXT_SWING, 35 VDDA0(1.8V) (power), 36 VDDA1(TX)(1.8V) (power), 37 TXC-, 38 TXC+, 39 TX0-, 40 TX0+, 41 VDDA2(TX)(1.8V) (power), 42 TX1-, 43 TX1+, 44 TX2-, 45 TX2+, 46 VDDA3(TX)(1.8V) (power), 47 VDDA(PLL0)(1.8V) (power), 48 VDDA(PLL1)(1.8V) (power), 49 TEST (power), 50 INT, 51 CSDA, 52 CSCL, 53 A0_I2C (power), 54 A1_I2C (power), 55 VDDIOB(1.8V), 56 VPA7 (in), 57 VPA6 (in), 58 VPA5 (in), 59 VPA4 (in), 60 VPA3 (in), 61 VPA2 (in), 62 VPA1 (in), 63 VPA0 (in), 64 VPB7 (in), 65 PAD
text: R0; RED; R7; G0; GRN; G7; B0; BLUE; B7

## IND_2.2uH_2.6A_10%_SMD
designator L?, comment 2.2uH,2.6A
Inductor 2.2uH smt 2.6A, 58 milliohm; TIIntPartnumber: 1L0025; MfrNum: VLCF5020T-2R2N2R6-3; Mfr: TDK; PartName: 2.2uH10%2.6Asmd; PCB Footprint: smd0.157inx0.157in; Cost10K: 0.37; Cost100: 1.11; Vendor: Digikey
footprint VLCF5020T
pins: 1, 2

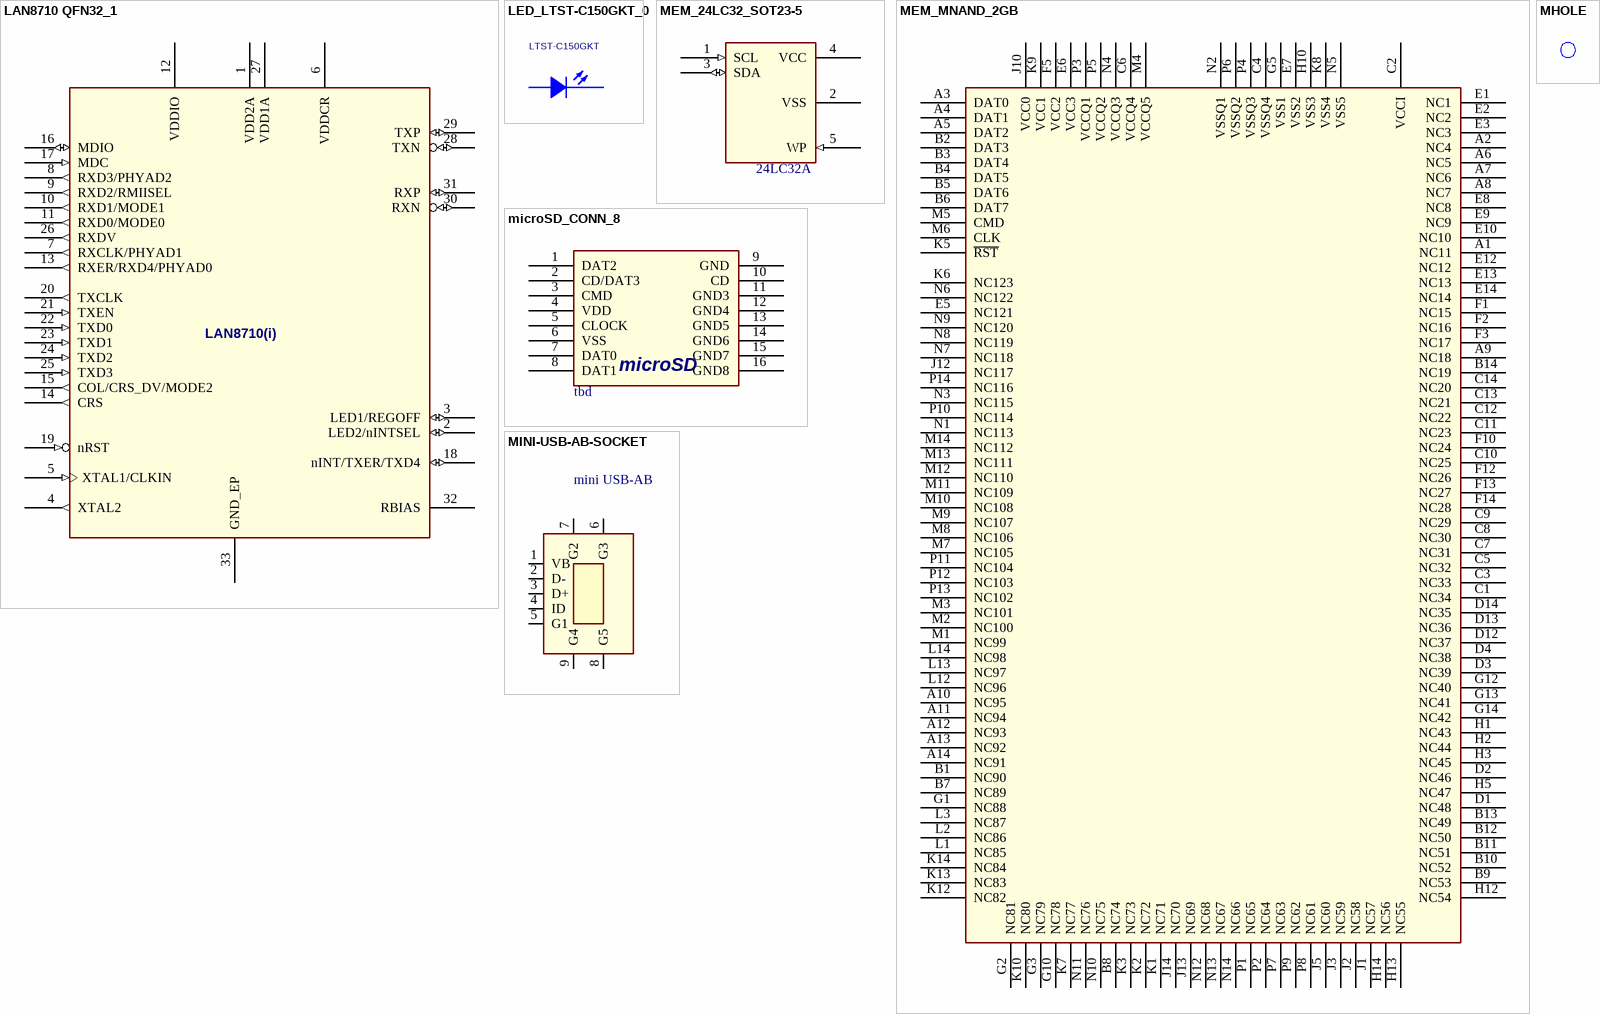
[diagram p4: symbols LAN8710 QFN32_1 to MINI-USB-AB-SOCKET]

## LAN8710 QFN32_1
designator U?, comment LAN8710(i)
PART#: SMSC LAN8710A-EZK
footprint QFN32_5X5MM_EP3P3MM
pins: 1 VDD2A (power), 2 LED2/nINTSEL (io), 3 LED1/REGOFF (io), 4 XTAL2 (out), 5 XTAL1/CLKIN (in), 6 VDDCR (power), 7 RXCLK/PHYAD1 (out), 8 RXD3/PHYAD2 (out), 9 RXD2/RMIISEL (out), 10 RXD1/MODE1 (out), 11 RXD0/MODE0 (out), 12 VDDIO (power), 13 RXER/RXD4/PHYAD0 (out), 14 CRS (out), 15 COL/CRS_DV/MODE2 (out), 16 MDIO (io), 17 MDC (in), 18 nINT/TXER/TXD4 (io), 19 nRST (in), 20 TXCLK (out), 21 TXEN (in), 22 TXD0 (in), 23 TXD1 (in), 24 TXD2 (in), 25 TXD3 (in), 26 RXDV (out), 27 VDD1A (power), 28 TXN (io), 29 TXP (io), 30 RXN (io), 31 RXP (io), 32 RBIAS, 33 GND_EP (power)

## LED_LTST-C150GKT_0
designator D?, comment LTST-C150GKT
TN: 257-0020-000; CLASS: DISCRETE
footprint led1206-59x59
pins: 1 C, 2 A

## MEM_24LC32_SOT23-5
designator U?, comment 24LC32A
EEPROM 256Kb I2C SOIC8; PartName: CAT24C256W; Mfr: On Semiconductor; MfrNum: CAT24C256WI-G; TIIntPartnumber: 1A0225; Vendor: Digikey; Cost100: 1.21; Cost10K: 0.27; PCB Footprint: SOIC8pintbd
footprint SOIC_8
pins: 1 SCL (in), 2 VSS (power), 3 SDA (io), 4 VCC (power), 5 WP (in)

## MEM_MNAND_2GB
designator U?
pins: A1 NC11, A2 NC4, A3 DAT0, A4 DAT1, A5 DAT2, A6 NC5, A7 NC6, A8 NC7, A9 NC18, A10 NC95, A11 NC94, A12 NC93, A13 NC92, A14 NC91, B1 NC90, B2 DAT3, B3 DAT4, B4 DAT5, B5 DAT6, B6 DAT7, B7 NC89, B8 NC74, B9 NC53, B10 NC52, B11 NC51, B12 NC50, B13 NC49, B14 NC19, C1 NC34, C2 VCCI (power), C3 NC33, C4 VSSQ4, C5 NC32, C6 VCCQ4, C7 NC31, C8 NC30, C9 NC29, C10 NC25, C11 NC23, C12 NC22, C13 NC21, C14 NC20, D1 NC48, D2 NC46, D3 NC39, D4 NC38, D12 NC37, D13 NC36, D14 NC35, E1 NC1, E2 NC2, E3 NC3, E5 NC121, E6 VCC3 (power), E7 VSS2 (power), E8 NC8, E9 NC9, E10 NC10, E12 NC12, E13 NC13, E14 NC14, F1 NC15, F2 NC16, F3 NC17, F5 VCC2 (power), F10 NC24, F12 NC26, F13 NC27, F14 NC28, G1 NC88, G2 NC81, G3 NC79, G5 VSS1 (power), G10 NC78, G12 NC40, G13 NC41, G14 NC42, H1 NC43, H2 NC44, H3 NC45, H5 NC47, H10 VSS3 (power), H12 NC54, H13 NC55, H14 NC56, J1 NC57, J2 NC58, J3 NC59, J5 NC60, J10 VCC0, J12 NC117, J13 NC69, J14 NC70, K1 NC71, K2 NC72, K3 NC73, K5 ~{RST}, K6 NC123, K7 NC77, K8 VSS4 (power), K9 VCC1 (power), K10 NC80, K12 NC82, K13 NC83, K14 NC84, L1 NC85, L2 NC86, L3 NC87, L12 NC96, L13 NC97, L14 NC98, M1 NC99, M2 NC100, M3 NC101, M4 VCCQ5 (power), M5 CMD, M6 CLK, M7 NC105, M8 NC106, M9 NC107, M10 NC108, M11 NC109, M12 NC110, M13 NC111, M14 NC112, N1 NC113, N2 VSSQ1 (power), N3 NC115, N4 VCCQ3 (power), N5 VSS5 (power), N6 NC122, N7 NC118, N8 NC119, N9 NC120, N10 NC75, N11 NC76, N12 NC68, N13 NC67, N14 NC66, P1 NC65, P2 NC64, P3 VCCQ1 (power), P4 VSSQ3 (power), P5 VCCQ2 (power), P6 VSSQ2 (power), P7 NC63, P8 NC61, P9 NC62, P10 NC114, P11 NC104, P12 NC103, P13 NC102, P14 NC116

## MHOLE
designator MH?
footprint mh230-156
pins: 1 TP

## microSD_CONN_8
designator J?, comment tbd
Manufacturer: OMRON; ATLStockNo1: 4500.0144; TN: 224-0332-000
footprint SM-CON-MOLEX-54794-0918
pins: 1 DAT2, 2 CD/DAT3, 3 CMD, 4 VDD (power), 5 CLOCK, 6 VSS (power), 7 DAT0, 8 DAT1, 9 GND (power), 10 CD, 11 GND3 (power), 12 GND4 (power), 13 GND5 (power), 14 GND6 (power), 15 GND7 (power), 16 GND8 (power)
text: microSD

## MINI-USB-AB-SOCKET
designator J?, comment mini USB-AB
Manufacturer: KYCON; Order#: KMAB-SMT-5S-S-30TR; ATLStockNo1: 4500.0223; Order# 2: C-440247; Distributor 2: Tyco; Distributor: Deltron; Manufacturer 2: AMP
footprint usb-mini-smt-num
pins: 1 VB, 2 D-, 3 D+, 4 ID, 5 G1, 6 G3, 7 G2, 8 G5, 9 G4

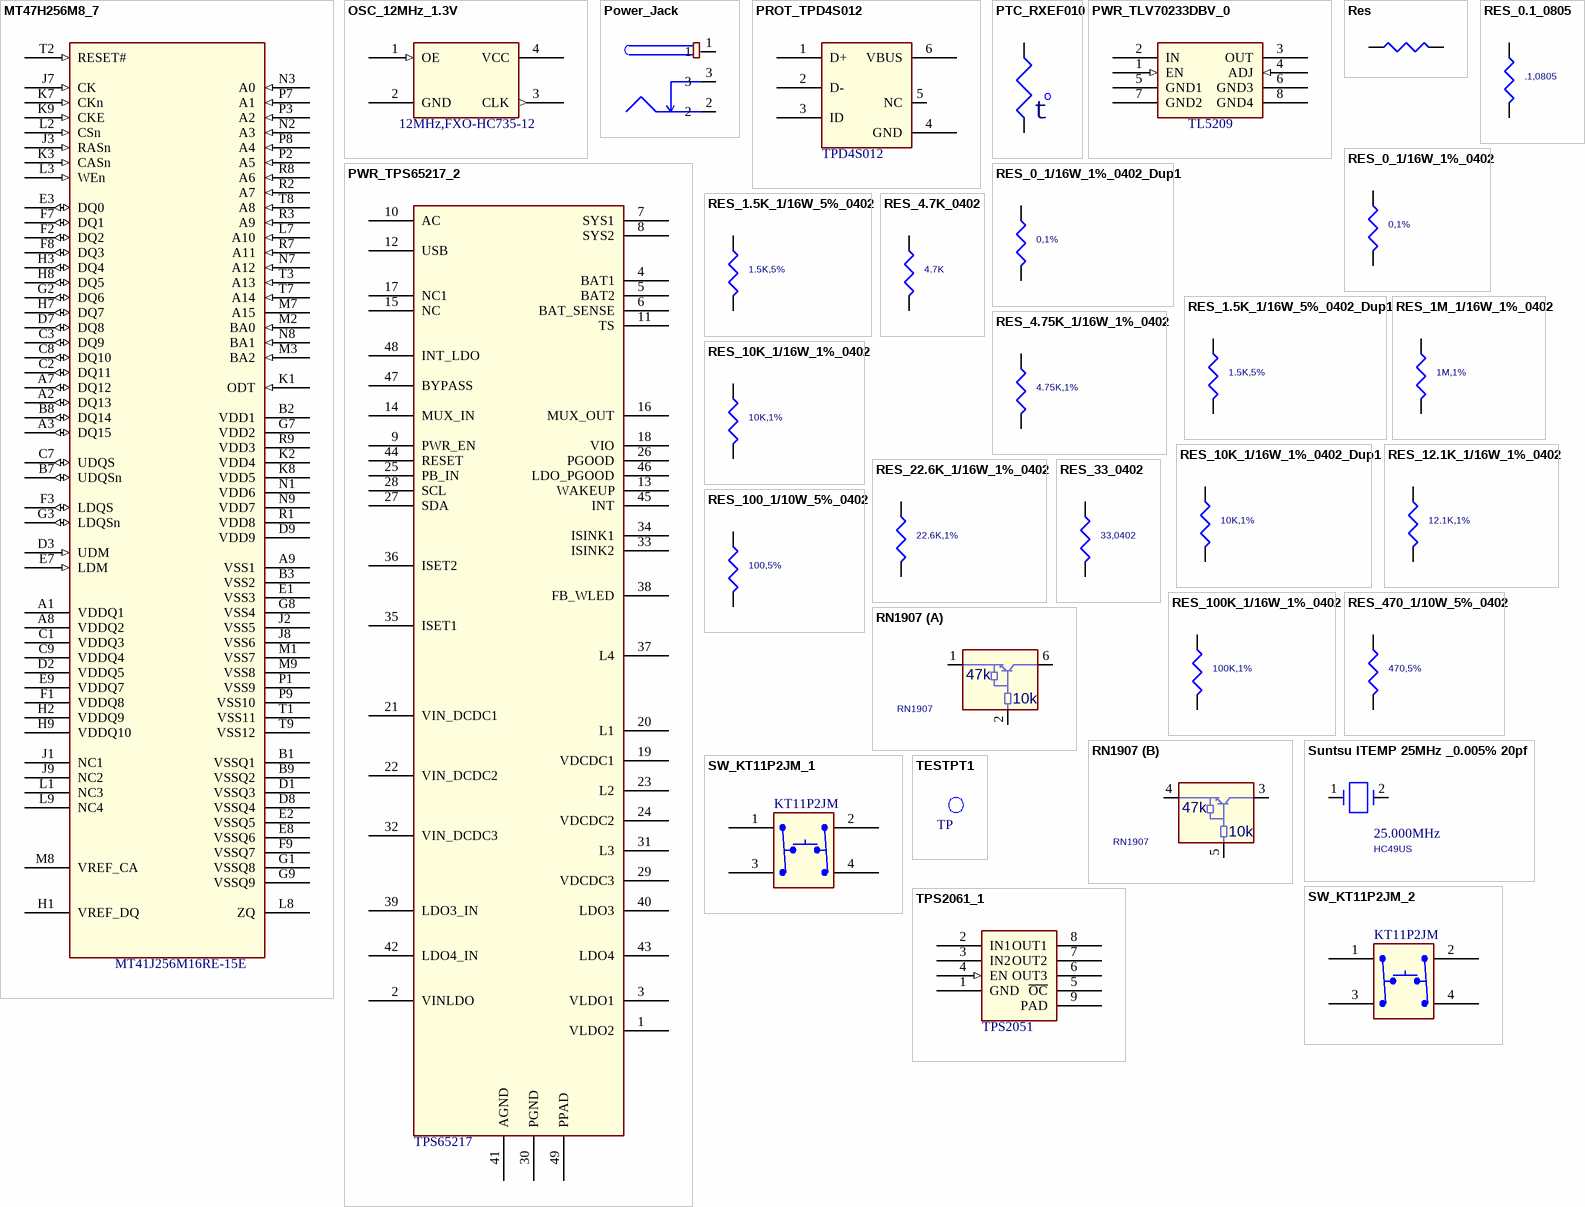
[diagram p5: symbols MT47H256M8_7 to TPS2061_1]

## MT47H256M8_7
designator U?, comment MT41J256M16RE-15E
footprint ddr2_fbga60pin
pins: A1 VDDQ1 (power), A2 DQ13 (io), A3 DQ15 (io), A7 DQ12 (io), A8 VDDQ2 (power), A9 VSS1 (power), B1 VSSQ1 (power), B2 VDD1 (power), B3 VSS2 (power), B7 UDQSn (io), B8 DQ14 (io), B9 VSSQ2 (power), C1 VDDQ3 (power), C2 DQ11 (io), C3 DQ9 (io), C7 UDQS (io), C8 DQ10 (io), C9 VDDQ4 (power), D1 VSSQ3 (power), D2 VDDQ5 (power), D3 UDM (in), D7 DQ8 (io), D8 VSSQ4 (power), D9 VDD9 (power), E1 VSS3 (power), E2 VSSQ5 (power), E3 DQ0 (io), E7 LDM (in), E8 VSSQ6 (power), E9 VDDQ7 (power), F1 VDDQ8 (power), F2 DQ2 (io), F3 LDQS (io), F7 DQ1 (io), F8 DQ3 (io), F9 VSSQ7 (power), G1 VSSQ8 (power), G2 DQ6 (io), G3 LDQSn (io), G7 VDD2 (power), G8 VSS4 (power), G9 VSSQ9 (power), H1 VREF_DQ (power), H2 VDDQ9 (power), H3 DQ4 (io), H7 DQ7 (io), H8 DQ5 (io), H9 VDDQ10 (power), J1 NC1, J2 VSS5 (power), J3 RASn (in), J7 CK (in), J8 VSS6 (power), J9 NC2, K1 ODT (in), K2 VDD4 (power), K3 CASn (in), K7 CKn (in), K8 VDD5 (power), K9 CKE (in), L1 NC3, L2 CSn (in), L3 WEn (in), L7 A10 (in), L8 ZQ (power), L9 NC4, M1 VSS7 (power), M2 BA0 (in), M3 BA2 (in), M7 A15, M8 VREF_CA (power), M9 VSS8 (power), N1 VDD6 (power), N2 A3 (in), N3 A0 (in), N7 A12 (in), N8 BA1 (in), N9 VDD7 (power), P1 VSS9 (power), P2 A5 (in), P3 A2 (in), P7 A1 (in), P8 A4 (in), P9 VSS10 (power), R1 VDD8 (power), R2 A7 (in), R3 A9 (in), R7 A11 (in), R8 A6 (in), R9 VDD3 (power), T1 VSS11 (power), T2 RESET# (in), T3 A13 (in), T7 A14 (in), T8 A8 (in), T9 VSS12 (power)

## OSC_12MHz_1.3V
designator Y?, comment 12MHz,FXO-HC735-12
Oscillator 12MHz 50ppm SMD 1.8V; TIIntPartnumber: 1Y0028; MfrNum: ECS-3518-120-B-TR; Mfr: ECS; PartName: Oscillator12MHzSMD; PCB Footprint: SMD 5x3.2mm; Cost10K: 1.12; Cost100: 2.46; Vendor: Digikey; Descriptive_Text: Oscillator 12MHz 50ppm SMD 1.8V; DescriptiveText: Oscillator 12MHz 50ppm SMD 1.8V
footprint ecs_smd3_2x5mm
pins: 1 OE (in), 2 GND (power), 3 CLK (out), 4 VCC (power)

## Power_Jack
designator J?
pins: 1, 2, 3

## PROT_TPD4S012
designator U?, comment TPD4S012
ESD 4channel USB Interface; TIIntPartnumber: 1A0233; MfrNum: TPD4S012DRY; Mfr: TI; PCB Footprint: smd UFDFN-6pin; Cost10K: 0.23; Cost100: 0.76; Vendor: Digikey; PartName: TPD4S012
footprint U_6_DRY
pins: 1 D+, 2 D-, 3 ID, 4 GND (power), 5 NC, 6 VBUS (power)

## PTC_RXEF010
designator RT?
footprint polysw200-5638-310
pins: 1, 2
text: t

## PWR_TLV70233DBV_0
designator U?, comment TL5209
pins: 1 EN (in), 2 IN (power), 3 OUT (power), 4 ADJ (in), 5 GND1 (power), 6 GND3 (power), 7 GND2 (power), 8 GND4 (power)

## PWR_TPS65217_2
designator U?, comment TPS65217
footprint TBD
pins: 1 VLDO2, 2 VINLDO, 3 VLDO1, 4 BAT1, 5 BAT2, 6 BAT_SENSE, 7 SYS1, 8 SYS2, 9 PWR_EN, 10 AC, 11 TS, 12 USB, 13 WAKEUP, 14 MUX_IN, 15 NC, 16 MUX_OUT, 17 NC1, 18 VIO, 19 VDCDC1, 20 L1, 21 VIN_DCDC1, 22 VIN_DCDC2, 23 L2, 24 VDCDC2, 25 PB_IN, 26 PGOOD, 27 SDA, 28 SCL, 29 VDCDC3, 30 PGND, 31 L3, 32 VIN_DCDC3, 33 ISINK2, 34 ISINK1, 35 ISET1, 36 ISET2, 37 L4, 38 FB_WLED, 39 LDO3_IN, 40 LDO3, 41 AGND, 42 LDO4_IN, 43 LDO4, 44 RESET, 45 INT, 46 LDO_PGOOD, 47 BYPASS, 48 INT_LDO, 49 PPAD

## Res
designator R?
pins: 1, 2

## RES_0.1_0805
designator R?, comment .1,0805
footprint R805-35X60
pins: 1, 2

## RES_0_1/16W_1%_0402
designator R?, comment 0,1%
Resistor Zero ohm Jumper 0402; Part Number: RES_0_1/16W_1%_0402
footprint 402
pins: 1, 2

## RES_0_1/16W_1%_0402_Dup1
designator R?, comment 0,1%
Resistor Zero ohm Jumper 0402; Part Number: RES_0_1/16W_1%_0402
footprint 402
pins: 1, 2

## RES_1.5K_1/16W_5%_0402
designator R?, comment 1.5K,5%
RES 1.5K OHM 1/16W 5% 0402 SMD; Part Number: RES_1.5K_1/16W_5%_0402
footprint 402
pins: 1, 2

## RES_1.5K_1/16W_5%_0402_Dup1
designator R?, comment 1.5K,5%
RES 1.5K OHM 1/16W 5% 0402 SMD; Part Number: RES_1.5K_1/16W_5%_0402
footprint 402
pins: 1, 2

## RES_1M_1/16W_1%_0402
designator R?, comment 1M,1%
Resistor 1Mohm 1/16W 1% 0402; Part Number: RES_1M_1/16W_1%_0402
footprint 402
pins: 1, 2

## RES_4.7K_0402
designator R?, comment 4.7K
footprint r402-25rd
pins: 1, 2

## RES_4.75K_1/16W_1%_0402
designator R?, comment 4.75K,1%
RES 4.75K OHM 1/16W 1% 0402 SMD; Part Number: RES_4.75K_1/16W_1%_0402
footprint 402
pins: 1, 2

## RES_10K_1/16W_1%_0402
designator R?, comment 10K,1%
Resistor 10Kohm 1/16W 1% 0402; Part Number: RES_10K_1/16W_1%_0402
footprint 402
pins: 1, 2

## RES_10K_1/16W_1%_0402_Dup1
designator R?, comment 10K,1%
Resistor 10Kohm 1/16W 1% 0402; Part Number: RES_10K_1/16W_1%_0402
footprint 402
pins: 1, 2

## RES_12.1K_1/16W_1%_0402
designator R?, comment 12.1K,1%
RES 12.1K OHM 1/16W 1% 0402 SMD; Part Number: RES_12.1K_1/16W_1%_0402
footprint 402
pins: 1, 2

## RES_22.6K_1/16W_1%_0402
designator R?, comment 22.6K,1%
RES 22.6K OHM 1/16W 1% SMD 0402; Part Number: RES_22.2K_1/16W_1%_0402
footprint 402
pins: 1, 2

## RES_33_0402
designator R?, comment 33,0402
Part Number: RES_33_0402
footprint r402-25rd
pins: 1, 2

## RES_100_1/10W_5%_0402
designator R?, comment 100,5%
RES 100 OHM 1/10W 5% 0402 SMD; Part Number: RES_100_1/10W_5%_0402
footprint 402
pins: 1, 2

## RES_100K_1/16W_1%_0402
designator R?, comment 100K,1%
Resistor 100Kohm 1/16W 1% 0402; Part Number: RES_100K_1/16W_1%_0402
footprint 402
pins: 1, 2

## RES_470_1/10W_5%_0402
designator R?, comment 470,5%
RES 470 OHM 1/10W 5% 0402 SMD; Part Number: RES_470_1/10W_5%_0402
footprint 402
pins: 1, 2

## RN1907
designator T?
Manufacturer: Toshiba; ATLStockNo2: 2130.0100; ATLStockNo1: 2130.0137; Order# 2: BCR135S
footprint P-SOT363-6-1
part A pins: 1 4, 2 5, 6 3
part B pins: 3, 4, 5
part A text: 47k; 10k
part B text: 47k; 10k

## Suntsu ITEMP 25MHz _0.005% 20pf
designator Y?, comment 25.000MHz  PCB Footprint: HC49US
PART#: Suntsu Freq. SCS20D48-25.000MHZ
footprint HC49US
pins: 1, 2

## SW_KT11P2JM_1
designator S?, comment KT11P2JM
CLASS: DISCRETE; TN: 276-0043-000
footprint SM-SW-SPST-4-4
pins: 1 A1, 2 B1, 3 A2, 4 B2

## SW_KT11P2JM_2
designator S?, comment KT11P2JM
CLASS: DISCRETE; TN: 276-0043-000
footprint SM-SW-SPST-4-4
pins: 1 A1, 2 B1, 3 A2, 4 B2

## TESTPT1
designator TP?, comment TP
footprint tp1-8040
pins: 1 TP

## TPS2061_1
designator U?, comment TPS2051
pins: 1 GND (power), 2 IN1 (power), 3 IN2 (power), 4 EN (in), 5 ~{OC}, 6 OUT3 (power), 7 OUT2 (power), 8 OUT1 (power), 9 PAD